# EAGLE library part DAC5571IDBVR (library ruark2)
8 Bit Digital to Analog Converter 1 SOT-23-6
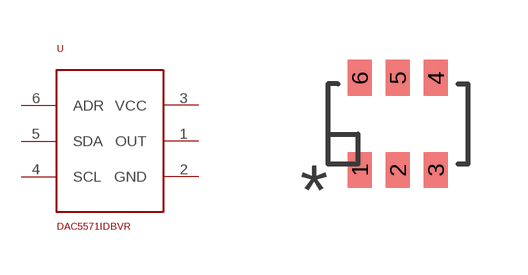
[diagram p129: symbol with the pads of SOT23-6; footprint SOT23-6]

Designator prefix U

## DAC5571IDBVR (PARTNO: 296-38918-1-ND)  [SOT23-6]
1  OUT
2  GND
3  VCC
4  SCL
5  SDA
6  ADR

## Footprint SOT23-6 (pad centres in mm)
smd 0.6 x 0.9: 1 -0.95,-1.15; 2 0,-1.15; 3 0.95,-1.15; 4 0.95,1.15; 5 0,1.15; 6 -0.95,1.15